# Altium schematic symbol library CONN HEADERS 4.2MM PITCH (5.5MM ROWS).SchLib: 4 symbols
Pins are listed as number, name and electrical type; pins without a type are passive.

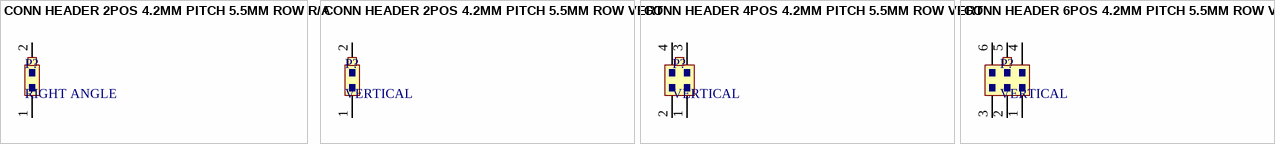
[diagram p0: symbols CONN HEADER 2POS 4.2MM PITCH 5.5MM ROW R/A to CONN HEADER 6POS 4.2MM PITCH 5.5MM ROW VERT]

## CONN HEADER 2POS 4.2MM PITCH 5.5MM ROW R/A
designator P?, comment RIGHT ANGLE
CONN HEADER 2POS 4.2MM PITCH 5.5MM ROW RIGHT ANGLE; Supplier 1: Digi-Key; Supplier 2: Digi-Key; Supplier 3: Digi-Key; Supplier 4: Digi-Key; Supplier Part Number 1: WM1363-ND; Supplier Part Number 2: WM21363-ND; Supplier Part Number 3: WM21351-ND; Supplier Part Number 4: WM1351-ND
footprint 2POS 4.2MM PITCH 5.5MM ROW R/A (2POS 4.2MM PITCH 5.5MM ROW RIGHT ANGLE)
pins: 1, 2

## CONN HEADER 2POS 4.2MM PITCH 5.5MM ROW VERT
designator P?, comment VERTICAL
CONN HEADER 2POS 4.2MM PITCH 5.5MM ROW VERT; Supplier 1: Digi-Key; Supplier 2: Digi-Key; Supplier 3: Digi-Key; Supplier 4: Digi-Key; Supplier 5: Digi-Key; Supplier Part Number 1: WM23820-ND; Supplier Part Number 2: WM23800-ND; Supplier Part Number 3: WM3800-ND; Supplier Part Number 4: WM18449-ND; Supplier Part Number 5: WM3820-ND
footprint 2POS 4.2MM PITCH 5.5MM ROW VERT (2POS 4.2MM PITCH 5.5MM ROW VERTICAL)
pins: 1, 2

## CONN HEADER 4POS 4.2MM PITCH 5.5MM ROW VERT
designator P?, comment VERTICAL
CONN HEADER 4POS 4.2MM PITCH 5.5MM ROW VERT
footprint 4POS 4.2MM PITCH 5.5MM ROW VERT
pins: 1, 2, 3, 4

## CONN HEADER 6POS 4.2MM PITCH 5.5MM ROW VERT
designator P?, comment VERTICAL
CONN HEADER 6POS 4.2MM PITCH 5.5MM ROW VERT
footprint 6POS 4.2MM PITCH 5.5MM ROW VERT
pins: 1, 2, 3, 4, 5, 6